# EAGLE library part BMA253 (library geusebio)
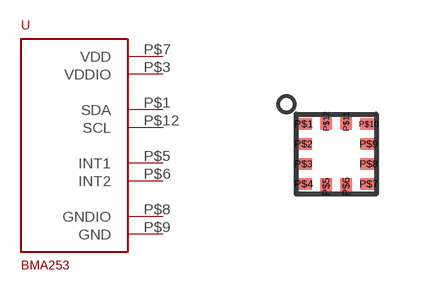
[diagram p10: symbol with the pads of BMA253; footprint BMA253]

Designator prefix -

## BMA253  [BMA253]
P$1  SDA
P$3  VDDIO
P$5  INT1
P$6  INT2
P$7  VDD
P$8  GNDIO
P$9  GND
P$12  SCL

## Footprint BMA253 (pad centres in mm)
smd 0.41 x 0.28: P$1 -0.815,0.75; P$2 -0.815,0.25; P$3 -0.815,-0.25; P$4 -0.815,-0.75; P$7 0.815,-0.75; P$8 0.815,-0.25; P$9 0.815,0.25; P$10 0.815,0.75
smd 0.28 x 0.41: P$5 -0.25,-0.815; P$6 0.25,-0.815; P$11 0.25,0.815; P$12 -0.25,0.815